# EAGLE library part QS6K1 (library MicroBoard)
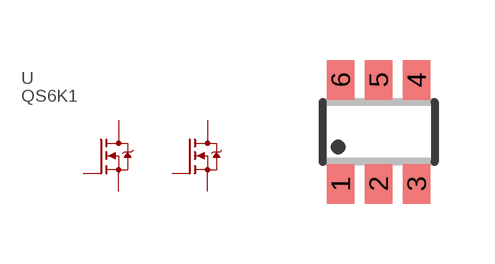
[diagram p5: symbol with the pads of SSOT6; footprint SSOT6]

Designator prefix -

## QS6K1  [SSOT6]
1  N-G1  pas
2  N-S2  pas
3  N-G2  pas
4  N-D2  pas
5  N-S1  pas
6  N-D1  pas

## Footprint SSOT6 (pad centres in mm)
SuperSOT-6 Source: Fairchild Semiconductor International ssot6_dim.pdf September 1998, Rev. A
smd 0.69 x 0.99: 1 -0.95,-1.3; 2 0,-1.3; 3 0.95,-1.3; 4 0.95,1.3; 5 0,1.3; 6 -0.95,1.3